# Altium integrated library LoRa.IntLib: 1 symbol
Pins are listed as number, name and electrical type; pins without a type are passive.

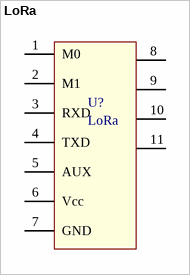
[diagram p0: symbol LoRa]

## LoRa
designator U?
footprint PCBComponent_1
pins: 1 M0, 2 M1, 3 RXD, 4 TXD, 5 AUX, 6 Vcc, 7 GND, 8, 9, 10 8, 11